# Altium footprint library MODULE_TC00500.PcbLib: 1 footprints
Each footprint in its own frame and in the unit in brackets; x right, y up, seen from the top. Pads: shape width x height; smd on the part's side, far side on the other; paste and mask are expansions set on the pad; w line width, h text height; cw(c..) or ccw(c..) is an arc to the next point about the centre after c.
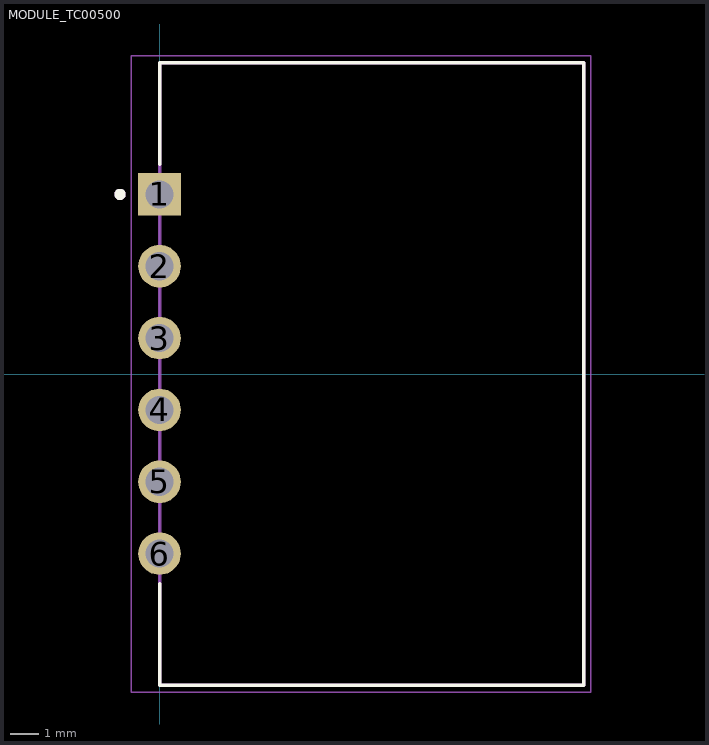
[diagram p0: the footprint, top view; thin cyan lines are the x and y axes]

## MODULE_TC00500 [mm]
height 37.5
pads (6):
  rect 1.508x1.508 / inner round 1.508 / far side rect 1.508x1.508 hole 1: 1(0,6.35)
  round 1.508 hole 1: 2(0,3.81) 3(0,1.27) 4(0,-1.27) 5(0,-3.81) 6(0,-6.35)
Top Overlay:
  circle w0.2: c-1.4,6.35 r0.1
  lines w0.127: 0,-7.424 0,-11 15,-11 15,11 0,11 0,7.424
Mechanical 13:
  circle w0.2: c-1.4,6.35 r0.1
  lines w0.127: 0,-11 15,-11 15,11 0,11 0,-11
Mechanical 15:
  lines w0.05: -1.004,-11.25 15.25,-11.25 15.25,11.25 -1.004,11.25 -1.004,-11.25
3D body "DS3231 RTC.step": height 38.8, standoff -5.95, extent -0.31,-11.4 13.22,11.4